# Altium footprint library PcbLib1.PcbLib: 3 footprints
Each footprint in its own frame and in the unit in brackets; x right, y up, seen from the top. Pads: shape width x height; smd on the part's side, far side on the other; paste and mask are expansions set on the pad; w line width, h text height; cw(c..) or ccw(c..) is an arc to the next point about the centre after c.
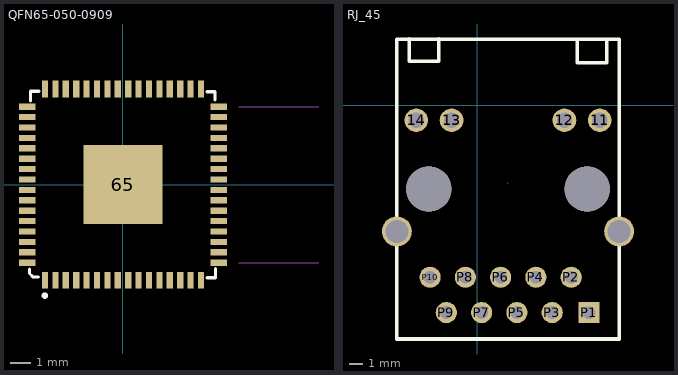
[diagram p0: the footprints below, top view; thin cyan lines are the x and y axes]

## PCBComponent_1 [mm]

## QFN65-050-0909 [mil] "QFN65-050-0909"
pads (65):
  rect 11.81x31.5 smd: 1(-147.34,-181.13) 2(-127.65,-181.13) 3(-107.97,-181.13) 4(-88.28,-181.13) 5(-68.6,-181.13) 6(-48.91,-181.13) 7(-29.23,-181.13) 8(-9.54,-181.13) 9(10.14,-181.13) 10(29.83,-181.13) 11(49.51,-181.13) 12(69.2,-181.13) 13(88.88,-181.13) 14(108.57,-181.13) 15(128.25,-181.13) 16(147.94,-181.13) 33(147.94,181.07) 34(128.25,181.07) 35(108.57,181.07) 36(88.88,181.07) 37(69.2,181.07) 38(49.51,181.07) 39(29.83,181.07) 40(10.14,181.07) 41(-9.54,181.07) 42(-29.23,181.07) 43(-48.91,181.07) 44(-68.6,181.07) 45(-88.28,181.07) 46(-107.97,181.07) 47(-127.65,181.07) 48(-147.34,181.07)
  rect 31.5x11.81 smd: 17(181.4,-147.67) 18(181.4,-127.98) 19(181.4,-108.3) 20(181.4,-88.61) 21(181.4,-68.93) 22(181.4,-49.24) 23(181.4,-29.56) 24(181.4,-9.87) 25(181.4,9.81) 26(181.4,29.5) 27(181.4,49.18) 28(181.4,68.87) 29(181.4,88.55) 30(181.4,108.24) 31(181.4,127.92) 32(181.4,147.61) 49(-180.8,147.61) 50(-180.8,127.92) 51(-180.8,108.24) 52(-180.8,88.55) 53(-180.8,68.87) 54(-180.8,49.18) 55(-180.8,29.5) 56(-180.8,9.81) 57(-180.8,-9.87) 58(-180.8,-29.56) 59(-180.8,-49.24) 60(-180.8,-68.93) 61(-180.8,-88.61) 62(-180.8,-108.3) 63(-180.8,-127.98) 64(-180.8,-147.67)
  rect 149.61x149.61 smd: 65(0.3,-0.03)
Top Overlay:
  circle w6: c-147.7,-210.03 r3.16
  lines w6: -176.7,-160.03 -176.7,-168.03 -169.7,-175.03 -159.7,-175.03 ; -174.7,158.97 -174.7,176.97 -158.7,176.97 ; 159.3,-176.03 175.3,-176.03 175.3,-159.03 ; 159.3,175.97 174.3,175.97 174.3,159.97
  text ".Designator" at 36.3,-229.07 h28
Mechanical 9:
  text "35" at 128.57,181.07 h25
  text "34" at 148.25,181.07 h25
  text "38" at 69.51,181.07 h25
  text "40" at 30.14,181.07 h25
  text "41" at 10.46,181.07 h25
  text "3" at -97.97,-181.13 h25
  text "33" at 167.94,181.07 h25
  text "48" at -127.34,181.07 h25
  text "59" at -160.8,-49.24 h25
  text "7" at -19.23,-181.13 h25
  text "13" at 108.88,-181.13 h25
  text "5" at -58.6,-181.13 h25
  text "6" at -38.91,-181.13 h25
  text "8" at 0.46,-181.13 h25
  text "9" at 20.14,-181.13 h25
  text "11" at 69.51,-181.13 h25
  text "12" at 89.2,-181.13 h25
  text "14" at 128.57,-181.13 h25
  text "15" at 148.25,-181.13 h25
  text "51" at -160.8,108.24 h25
  text "50" at -160.8,127.92 h25
  text "57" at -160.8,-9.87 h25
  text "55" at -160.8,29.5 h25
  text "31" at 201.4,127.92 h25
  text "32" at 201.4,147.61 h25
  text "46" at -87.97,181.07 h25
  text "45" at -68.28,181.07 h25
  text "44" at -48.6,181.07 h25
  text "43" at -28.91,181.07 h25
  text "39" at 49.83,181.07 h25
  text "36" at 108.88,181.07 h25
  text "47" at -107.65,181.07 h25
  text "54" at -160.8,49.18 h25
  text "53" at -160.8,68.87 h25
  text "1" at -137.34,-181.13 h25
  text "52" at -160.8,88.55 h25
  text "16" at 167.94,-181.13 h25
  text "17" at 201.4,-147.67 h25
  text "26" at 201.4,29.5 h25
  text "37" at 89.2,181.07 h25
  text "49" at -160.8,147.61 h25
  text "20" at 201.4,-88.61 h25
  text "10" at 49.83,-181.13 h25
  text "64" at -160.8,-147.67 h25
  text "60" at -160.8,-68.93 h25
  text "29" at 201.4,88.55 h25
  text "61" at -160.8,-88.61 h25
  text "21" at 201.4,-68.93 h25
  text "65" at 20.3,-0.03 h25
  text "63" at -160.8,-127.98 h25
  text "4" at -78.28,-181.13 h25
  text "2" at -117.65,-181.13 h25
  text "24" at 201.4,-9.87 h25
  text "30" at 201.4,108.24 h25
  text "23" at 201.4,-29.56 h25
  text "42" at -9.23,181.07 h25
  text "56" at -160.8,9.81 h25
  text "27" at 201.4,49.18 h25
  text "58" at -160.8,-29.56 h25
  text "19" at 201.4,-108.3 h25
  text "22" at 201.4,-49.24 h25
  text "28" at 201.4,68.87 h25
  text "18" at 201.4,-127.98 h25
  text "62" at -160.8,-108.3 h25
  text "25" at 201.4,9.81 h25
Mechanical 12:
  lines w1: 219.59,-147.67 371.3,-147.67 ; 219.59,147.61 371.3,147.61

## RJ_45 [mil] "以太网网口"
height 472.44
pads (18):
  round 66.93 hole 43.31: 11(347.5,-43) 12(247.5,-43) 13(-72.5,-43) 14(-172.5,-43)
  rect 60x60 hole 35.83: P1(317.13,-588.24)
  round 60 hole 35.83: P2(266.6,-488) P3(212.7,-588) P4(166.6,-488) P5(112.7,-588) P6(66.6,-488) P7(12.7,-588) P8(-33.4,-488) P9(-87.3,-588) P10(-133.4,-488)
  round 85 hole 65: SHIELD0(-227.5,-358.1) SHIELD1(402.5,-358.1)
  round 127.95 hole 127.95 unplated: ""(-136.9,-238) ""(311.9,-238)
Top Overlay:
  lines w10: -192.03,187.2 -192.03,124.2 -109.35,124.2 -109.35,155.7 -109.35,187.2 ; 284.32,183.26 284.32,120.26 367,120.26 367,151.76 367,183.26 ; -227.5,-663 402.5,-663 402.5,187 -227.5,187 -227.5,-663
Mechanical 15:
  lines w0.1: 86.5,-222.75 88.5,-220.75